# EAGLE library part ARDUINO-PRO-MINI (library mylibrary)
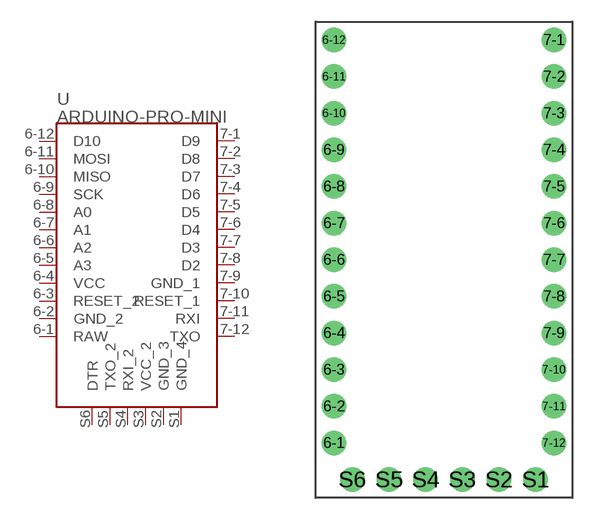
[diagram p1: symbol with the pads of ARDUINO_PRO_MINI; footprint ARDUINO_PRO_MINI]

Designator prefix U

## ARDUINO-PRO-MINI-3.3, ARDUINO-PRO-MINI-5.0  [ARDUINO_PRO_MINI]
6-1  RAW
6-2  GND_2
6-3  RESET_2
6-4  VCC
6-5  A3
6-6  A2
6-7  A1
6-8  A0
6-9  SCK
6-10  MISO
6-11  MOSI
6-12  D10
7-1  D9
7-2  D8
7-3  D7
7-4  D6
7-5  D5
7-6  D4
7-7  D3
7-8  D2
7-9  GND_1
7-10  RESET_1
7-11  RXI
7-12  TXO
S1  GND_4
S2  GND_3
S3  VCC_2
S4  RXI_2
S5  TXO_2
S6  DTR

## Footprint ARDUINO_PRO_MINI (pad centres in mm)
drill 1 pad 1.7: 6-1 -7.62,-11.43; 6-2 -7.62,-8.89; 6-3 -7.62,-6.35; 6-4 -7.62,-3.81; 6-5 -7.62,-1.27; 6-6 -7.62,1.27; 6-7 -7.62,3.81; 6-8 -7.62,6.35; 6-9 -7.62,8.89; 6-10 -7.62,11.43; 6-11 -7.62,13.97; 6-12 -7.62,16.51; 7-1 7.62,16.51; 7-2 7.62,13.97; 7-3 7.62,11.43; 7-4 7.62,8.89; 7-5 7.62,6.35; 7-6 7.62,3.81; 7-7 7.62,1.27; 7-8 7.62,-1.27; 7-9 7.62,-3.81; 7-10 7.62,-6.35; 7-11 7.62,-8.89; 7-12 7.62,-11.43; S1 6.35,-13.97; S2 3.81,-13.97; S3 1.27,-13.97; S4 -1.27,-13.97; S5 -3.81,-13.97; S6 -6.35,-13.97